# Altium schematic symbol library MC7905BD2TR4G.SchLib: 1 symbol
Pins are listed as number, name and electrical type; pins without a type are passive.

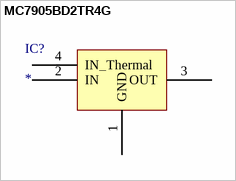
[diagram p0: symbol MC7905BD2TR4G]

## MC7905BD2TR4G
designator IC?
-5V reg
pins: 1 GND, 2 IN, 3 OUT, 4 IN_Thermal